# EAGLE library part SN74CBT3245APWR (library SN74CBT3245APWR)
OCTAL BUS TRANSCEIVER WITH 3-STATE OUTPUTS Source: Datasheet <http://www.ti.com/lit/gpn/sn74cbt3245a>
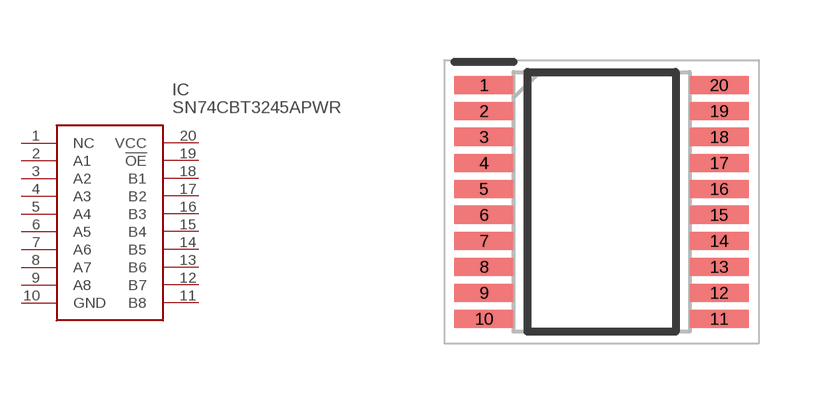
[diagram p0: symbol with the pads of SOP65P640X120-20N; footprint SOP65P640X120-20N]

Designator prefix IC

## SN74CBT3245APWR (Arrow_Part_Number: SN74CBT3245APWR; Arrow_Price-Stock: https://www.arrow.com/en/products/sn74cbt3245apwr/texas-instruments; Description: OCTAL BUS TRANSCEIVER WITH 3-STATE OUTPUTS; Height: 1.2mm; Manufacturer_Name: Texas Instruments; Manufacturer_Part_Number: SN74CBT3245APWR; Mouser_Part_Number: 595-SN74CBT3245APWR; Mouser_Price-Stock: https://www.mouser.co.uk/ProductDetail/Texas-Instruments/SN74CBT3245APWR?qs=NLW4NjXEBS5%252BHHdzA6a5Rg%3D%3D)  [SOP65P640X120-20N]
1  NC  nc
2  A1
3  A2
4  A3
5  A4
6  A5
7  A6
8  A7
9  A8
10  GND
11  B8
12  B7
13  B6
14  B5
15  B4
16  B3
17  B2
18  B1
19  !OE
20  VCC

## Footprint SOP65P640X120-20N (pad centres in mm)
pw(r-pdso-g20)-
smd 1.475 x 0.45: 1 -2.938,2.925; 2 -2.938,2.275; 3 -2.938,1.625; 4 -2.938,0.975; 5 -2.938,0.325; 6 -2.938,-0.325; 7 -2.938,-0.975; 8 -2.938,-1.625; 9 -2.938,-2.275; 10 -2.938,-2.925; 11 2.938,-2.925; 12 2.938,-2.275; 13 2.938,-1.625; 14 2.938,-0.975; 15 2.938,-0.325; 16 2.938,0.325; 17 2.938,0.975; 18 2.938,1.625; 19 2.938,2.275; 20 2.938,2.925